# Altium footprint library ComponentLibrary.PcbLib: 153 footprints (part 7 of 10)
Each footprint in its own frame and in the unit in brackets; x right, y up, seen from the top. Pads: shape width x height; smd on the part's side, far side on the other; paste and mask are expansions set on the pad; w line width, h text height; cw(c..) or ccw(c..) is an arc to the next point about the centre after c.
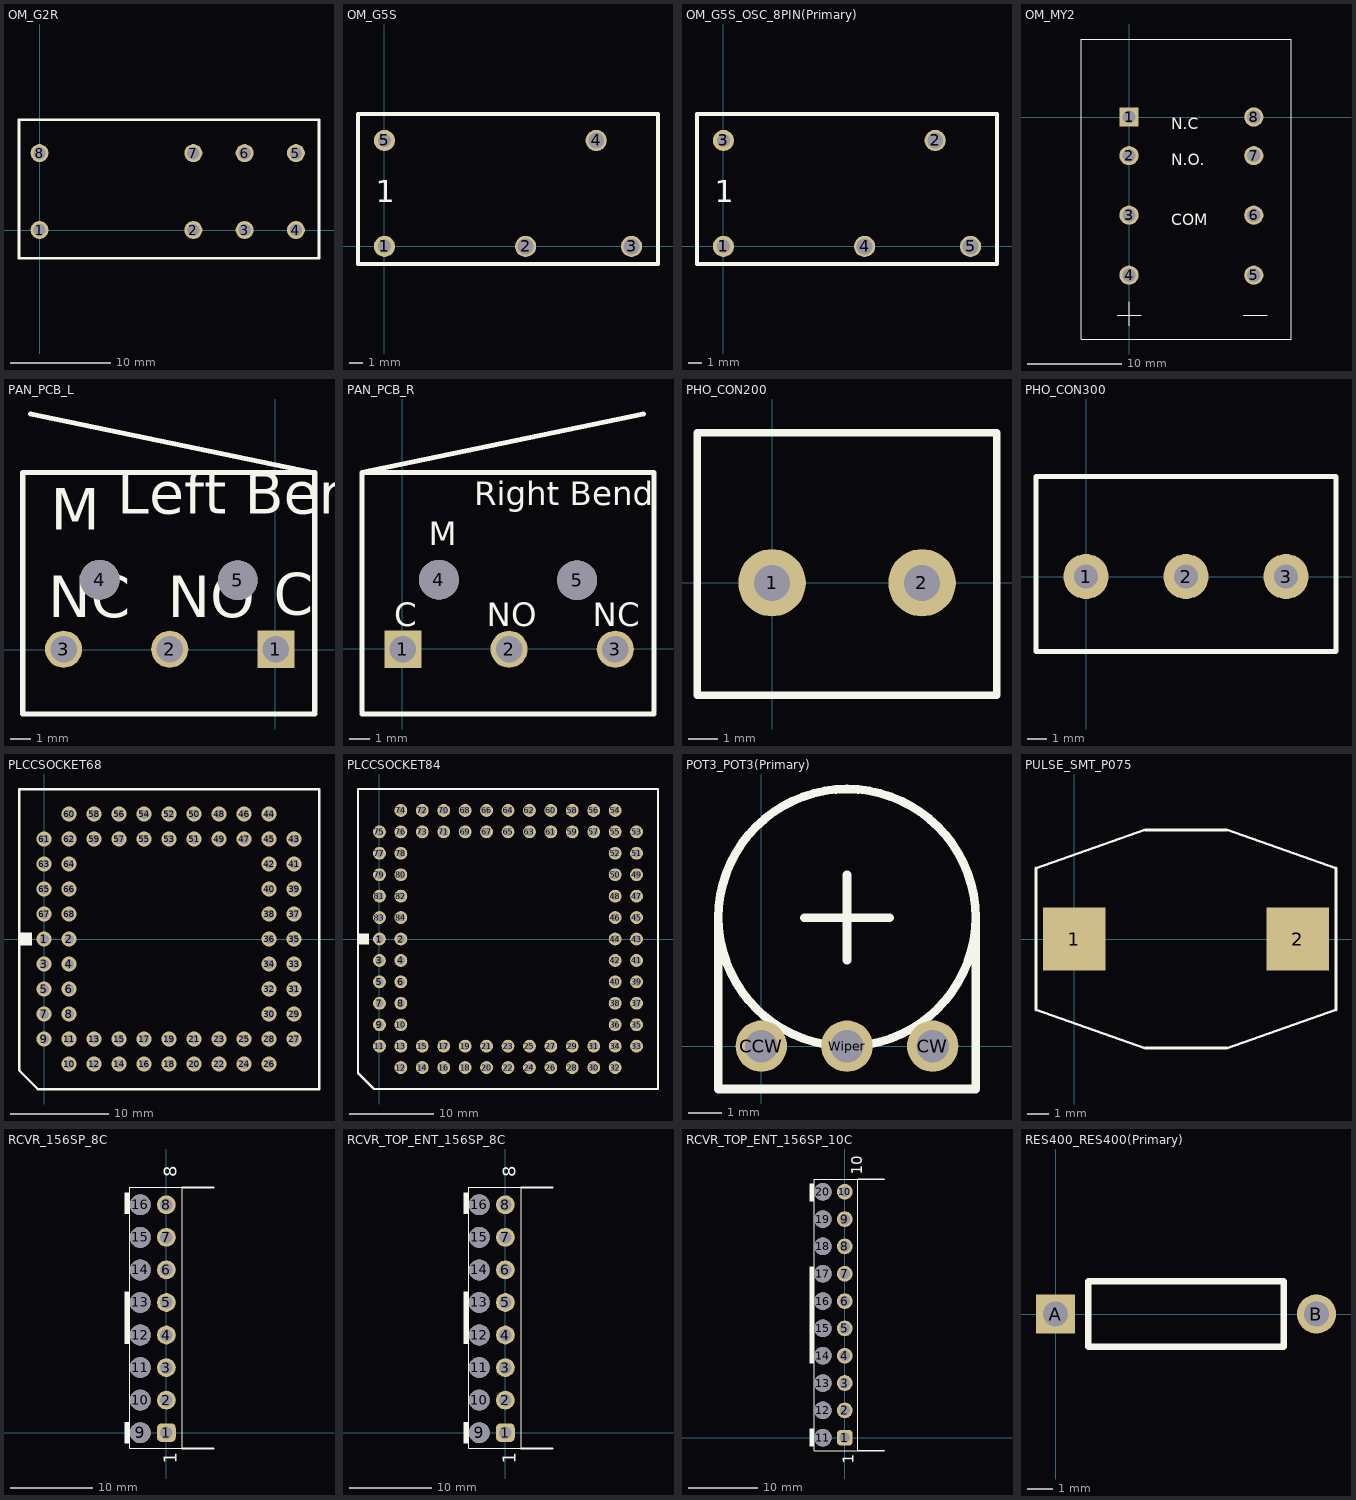
[diagram p6: the footprints below, top view; thin cyan lines are the x and y axes]

## OM_G2R [mil]
pads (8):
  round 70 hole 48: 1(0,0) 2(600,0) 3(800,0) 4(1000,0) 5(1000,300) 6(800,300) 7(600,300) 8(0,300)
Top Overlay:
  lines w10: -80,-110 1090,-110 1090,430 -80,430 -80,-110

## OM_G5S [mil]
pads (5):
  round 60 hole 38: 1(0,0) 5(0,300)
  round 60 hole 45: 2(400,0) 3(700,0) 4(600,300)
Top Overlay:
  lines w10: -75,-50 -75,375 775,375 775,-50 -75,-50
  text "1" at -25,125 h62.5

## OM_G5S_OSC_8PIN(Primary) [mil]
pads (5):
  round 60 hole 38: 1(0,0) 3(0,300)
  round 60 hole 45: 2(600,300) 4(400,0) 5(700,0)
Top Overlay:
  lines w10: -75,-50 -75,375 775,375 775,-50 -75,-50
  text "1" at -25,125 h62.5

## OM_MY2 [mil]
pads (8):
  rect 80x80 hole 55: 1(0,0)
  round 80 hole 55: 2(0,-161) 3(0,-409) 4(0,-659) 5(520,-659) 6(520,-409) 7(520,-161) 8(520,0)
Top Overlay:
  lines w5: -50,-825 50,-825 ; 0,-870 0,-770 ; 475,-825 575,-825 ; -200,-925 675,-925 675,325 -200,325 -200,-925
  text "N.O." at 175,-200 h46.88
  text "N.C" at 175,-50 h46.88
  text "COM" at 175,-450 h46.88

## PAN_PCB_L [mil]
pads (5):
  rect 70x70 hole 50: 1(1,1)
  round 70 hole 50: 2(-199,1) 3(-399,1)
  round 75 hole 75 unplated: 4(-331,132) 5(-71,131)
Top Overlay:
  lines w10: -476,-121 74,-121 ; -476,-116 -476,334 74,334 74,-116 ; -461,444 69,334
  text "NC" at -428,61 h78.12
  text "M" at -423,226 h78.12
  text "NO" at -203,61 h78.12
  text "C" at -3,66 h78.12
  text "Left Bend" at -298,256 h78.12

## PAN_PCB_R [mil]
pads (5):
  rect 70x70 hole 50: 1(1,-1)
  round 70 hole 50: 2(201,-1) 3(401,-1)
  round 75 hole 75 unplated: 4(69,130) 5(329,129)
Top Overlay:
  lines w10: -76,-123 474,-123 ; -76,-118 -76,332 ; 454,442 -76,332 ; 474,-118 474,332 -76,332
  text "C" at -15,42 h45
  text "NO" at 159,42 h45
  text "M" at 50,195 h45
  text "NC" at 359,42 h45
  text "Right Bend" at 135,270 h45

## PHO_CON200 [mil]
pads (2):
  round 90 hole 48: 1(0,0) 2(200,0)
Top Overlay:
  lines w10: -100,-150 -100,200 300,200 300,-150 -100,-150

## PHO_CON300 [mil]
pads (3):
  round 90 hole 48: 1(0,0) 2(200,0) 3(400,0)
Top Overlay:
  lines w10: -100,-150 -100,200 500,200 500,-150 -100,-150

## PLCCSOCKET68 [mil]
pads (68):
  round 60 hole 38: 1(0,0) 2(100,0) 3(0,-100) 4(100,-100) 5(0,-200) 6(100,-200) 7(0,-300) 8(100,-300) 9(0,-400) 10(100,-500) 11(100,-400) 12(200,-500) 13(200,-400) 14(300,-500) 15(300,-400) 16(400,-500) 17(400,-400) 18(500,-500) 19(500,-400) 20(600,-500) 21(600,-400) 22(700,-500) 23(700,-400) 24(800,-500) 25(800,-400) 26(900,-500) 27(1000,-400) 28(900,-400) 29(1000,-300) 30(900,-300) 31(1000,-200) 32(900,-200) 33(1000,-100) 34(900,-100) 35(1000,0) 36(900,0) 37(1000,100) 38(900,100) 39(1000,200) 40(900,200) 41(1000,300) 42(900,300) 43(1000,400) 44(900,500) 45(900,400) 46(800,500) 47(800,400) 48(700,500) 49(700,400) 50(600,500) 51(600,400) 52(500,500) 53(500,400) 54(400,500) 55(400,400) 56(300,500) 57(300,400) 58(200,500) 59(200,400) 60(100,500) 61(0,400) 62(100,400) 63(0,300) 64(100,300) 65(0,200) 66(100,200) 67(0,100) 68(100,100)
Top Overlay:
  region: -100,-25 -50,-25 -50,25 -100,25
  lines w10: -100,-525 -100,600 1100,600 1100,-600 -25,-600 -100,-525

## PLCCSOCKET84 [mil]
pads (84):
  round 60 hole 38: 1(0,0) 2(100,0) 3(0,-100) 4(100,-100) 5(0,-200) 6(100,-200) 7(0,-300) 8(100,-300) 9(0,-400) 10(100,-400) 11(0,-500) 12(100,-600) 13(100,-500) 14(200,-600) 15(200,-500) 16(300,-600) 17(300,-500) 18(400,-600) 19(400,-500) 20(500,-600) 21(500,-500) 22(600,-600) 23(600,-500) 24(700,-600) 25(700,-500) 26(800,-600) 27(800,-500) 28(900,-600) 29(900,-500) 30(1000,-600) 31(1000,-500) 32(1100,-600) 33(1200,-500) 34(1100,-500) 35(1200,-400) 36(1100,-400) 37(1200,-300) 38(1100,-300) 39(1200,-200) 40(1100,-200) 41(1200,-100) 42(1100,-100) 43(1200,0) 44(1100,0) 45(1200,100) 46(1100,100) 47(1200,200) 48(1100,200) 49(1200,300) 50(1100,300) 51(1200,400) 52(1100,400) 53(1200,500) 54(1100,600) 55(1100,500) 56(1000,600) 57(1000,500) 58(900,600) 59(900,500) 60(800,600) 61(800,500) 62(700,600) 63(700,500) 64(600,600) 65(600,500) 66(500,600) 67(500,500) 68(400,600) 69(400,500) 70(300,600) 71(300,500) 72(200,600) 73(200,500) 74(100,600) 75(0,500) 76(100,500) 77(0,400) 78(100,400) 79(0,300) 80(100,300) 81(0,200) 82(100,200) 83(0,100) 84(100,100)
Top Overlay:
  region: -100,-25 -50,-25 -50,25 -100,25
  lines w10: -100,-625 -100,700 1300,700 1300,-700 -25,-700 -100,-625

## POT3_POT3(Primary) [mil]
pads (3):
  round 60 hole 38: CCW(0,0) CW(200,0) Wiper(100,0)
Top Overlay:
  lines w10: 50,150 150,150 ; 100,100 100,200 ; -50,150 cw(c100,150) 250,150 ; -50,150 ccw(c100,150) 250,150 ; -50,150 -50,-50 250,-50 250,150

## PULSE_SMT_P075 [mil]
pads (2):
  rect 115x115 smd: 1(0,0) 2(410,0)
Top Overlay:
  lines w5: -70,-130 -70,130 130,200 280,200 480,130 480,-130 280,-200 130,-200 -70,-130

## RCVR_156SP_8C [mil]
pads (16):
  rrect50% 90x90 hole 60: 1(0,0)
  round 90 hole 60: 2(0,156) 3(0,312) 4(0,468) 5(0,624) 6(0,780) 7(0,936) 8(0,1092)
  round 100 hole 100 unplated: 9(-125,0) 10(-125,156) 11(-125,312) 12(-125,468) 13(-125,624) 14(-125,780) 15(-125,936) 16(-125,1092)
Top Overlay:
  region: -175,675 -200,675 -200,425 -175,425
  region: -175,50 -200,50 -200,-50 -175,-50
  region: -175,1150 -200,1150 -200,1050 -175,1050
  lines w5: -175,-75 75,-75 75,1175 -175,1175 -175,-75
  lines w10: 75,-75 225,-75 ; 75,1175 225,1175
  text "8" at 50,1225 h62.5
  text "1" at 50,-150 h62.5

## RCVR_TOP_ENT_156SP_8C [mil]
pads (16):
  rrect50% 90x90 hole 60: 1(0,0)
  round 90 hole 60: 2(0,156) 3(0,312) 4(0,468) 5(0,624) 6(0,780) 7(0,936) 8(0,1092)
  round 100 hole 100 unplated: 9(-125,0) 10(-125,156) 11(-125,312) 12(-125,468) 13(-125,624) 14(-125,780) 15(-125,936) 16(-125,1092)
Top Overlay:
  region: -175,675 -200,675 -200,425 -175,425
  region: -175,50 -200,50 -200,-50 -175,-50
  region: -175,1150 -200,1150 -200,1050 -175,1050
  lines w5: -175,-75 75,-75 75,1175 -175,1175 -175,-75
  lines w10: 75,-75 225,-75 ; 75,1175 225,1175
  text "8" at 50,1225 h62.5
  text "1" at 50,-150 h62.5

## RCVR_TOP_ENT_156SP_10C [mil]
pads (20):
  rrect50% 90x90 hole 60: 1(0,0)
  round 90 hole 60: 2(0,156) 3(0,312) 4(0,468) 5(0,624) 6(0,780) 7(0,936) 8(0,1092) 9(0,1248) 10(0,1404)
  round 100 hole 100 unplated: 11(-125,0) 12(-125,156) 13(-125,312) 14(-125,468) 15(-125,624) 16(-125,780) 17(-125,936) 18(-125,1092) 19(-125,1248) 20(-125,1404)
Top Overlay:
  region: -175,1450 -200,1450 -200,1350 -175,1350
  region: -175,50 -200,50 -200,-50 -175,-50
  region: -175,975 -200,975 -200,425 -175,425
  lines w5: -175,-75 -175,1475 75,1475 75,-75 -175,-75
  lines w10: 75,-75 225,-75 ; 75,1475 225,1475
  text "1" at 50,-150 h62.5
  text "10" at 100,1500 h62.5

## RES400_RES400(Primary) [mil]
pads (2):
  rect 60x60 hole 38: A(0,0)
  round 60 hole 38: B(400,0)
Top Overlay:
  lines w10: 50,-50 50,50 350,50 350,-50 50,-50